# Altium footprint library MAR_modems_board_A0_wf_8.PcbLib: 33 footprints (part 2 of 3)
Each footprint in its own frame and in the unit in brackets; x right, y up, seen from the top. Pads: shape width x height; smd on the part's side, far side on the other; paste and mask are expansions set on the pad; w line width, h text height; cw(c..) or ccw(c..) is an arc to the next point about the centre after c.
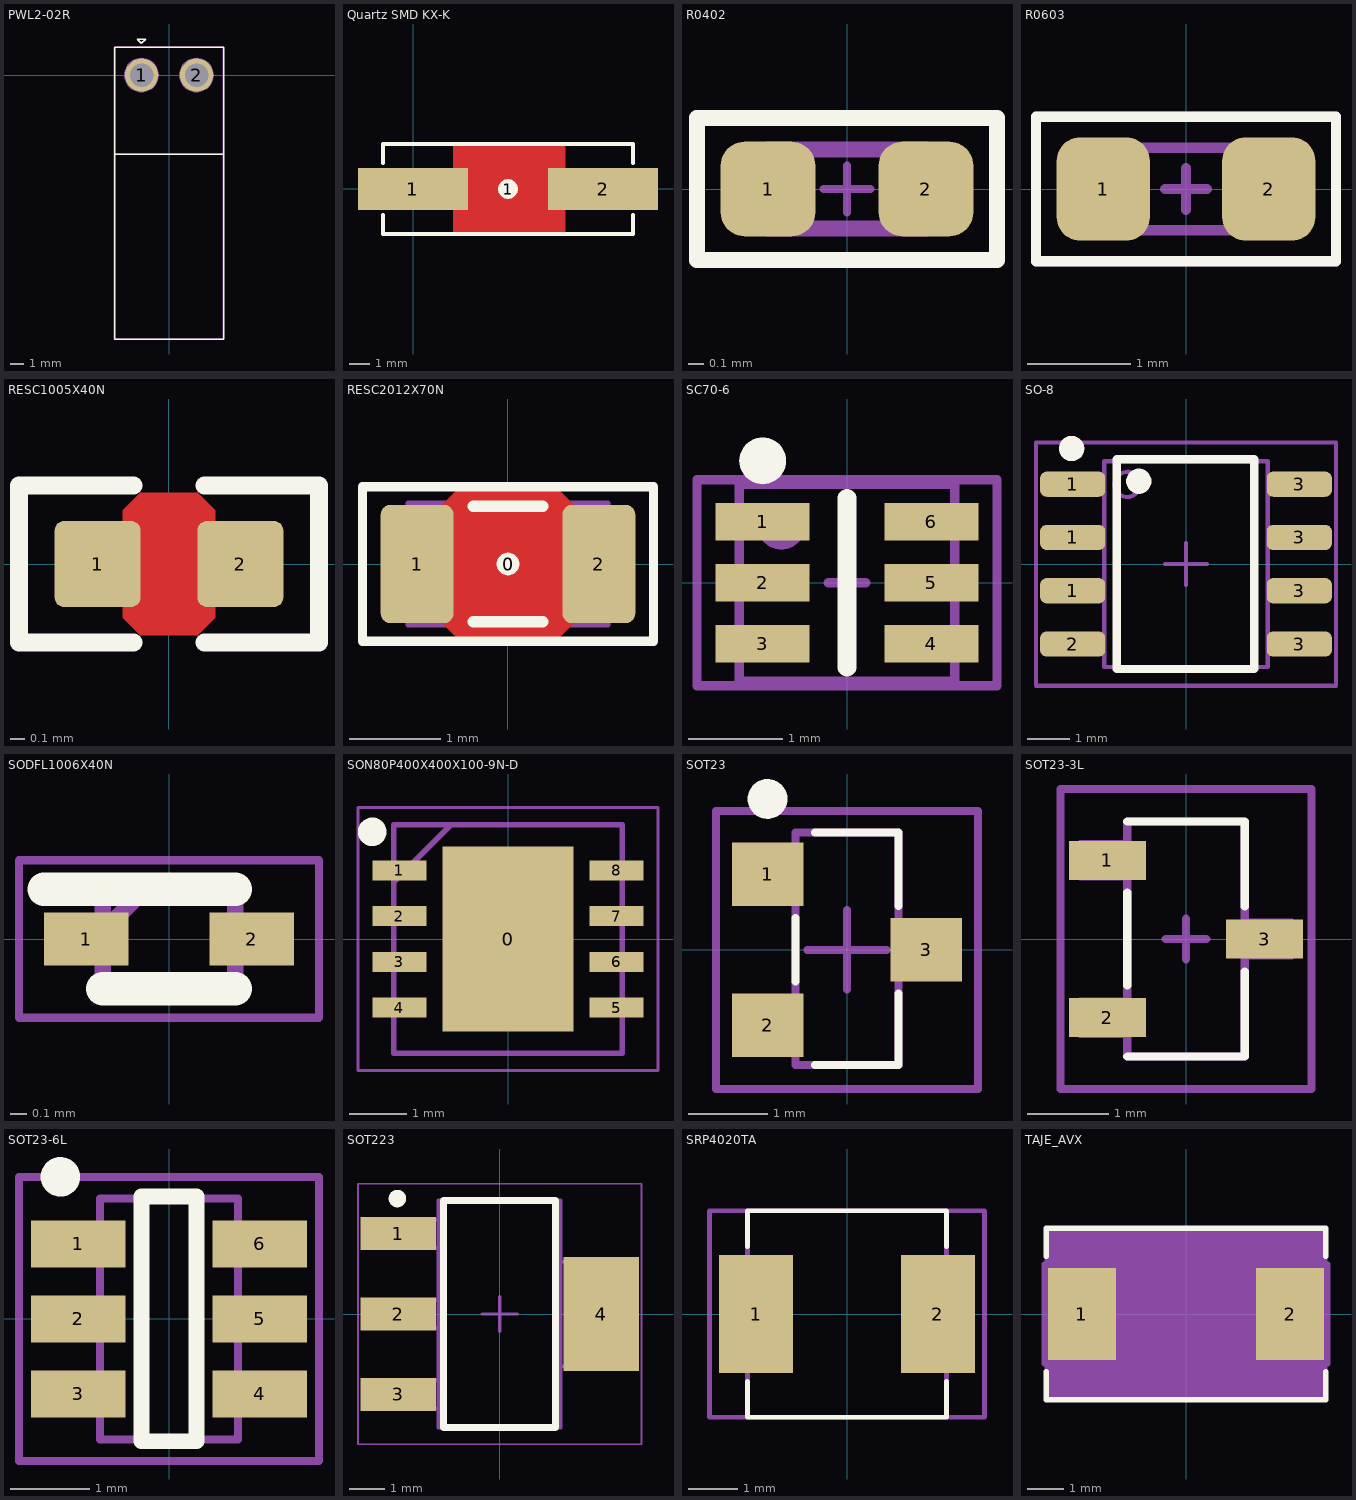
[diagram p1: the footprints below, top view; thin cyan lines are the x and y axes]

## PWL2-02R [mm] "Connector Header, 2-pin, Pitch 3.96 mm, Side Mount with stabilizer"
height 9.4
pads (2):
  round 2.4 hole 1.7 mask+0.05: 1(-1.98,0) 2(1.98,0)
Top Overlay:
  lines w0.1: -3.9,-5.7 3.93,-5.7 ; -3.93,-19 3.93,-19 3.93,2 -3.93,2 -3.93,-19 ; -2.3,2.6 -2,2.3 -1.7,2.6 -1.95,2.6 -2.05,2.6 -2.3,2.6 ; -2,2 -2,2
Top Assembly:
  circle w0.1: c-2,0 r1.2
  circle w0.1: c1.96,0 r1.2
  lines w0.1: -3.95,-5.7 3.91,-5.7 ; -3.95,2 3.91,2 ; -3.95,2 3.91,2 ; -3.95,2 -3.95,-19 3.91,-19 3.91,2
  text "'.Designator'" at -0.42,-2.5 h1.5
  text "1" at -2.12,-2.1 h1

## Quartz SMD KX-K [mm] "Quartz SMD KX-K"
height 4.2
pads (3):
  rect 5.5x2.08 smd: 1(0,0) 2(9.5,0)
  round 1 on Top Overlay: 1(4.75,0)
Top Layer:
  pour cut-out: 2,2.25 2,-2.25 7.5,-2.25 7.6,-2.15 7.6,2.25
Top Overlay:
  lines w0.2: -1.5,-1.3 -1.5,-2.25 11,-2.25 11,-1.3 ; -1.5,1.3 -1.5,2.25 11,2.25 11,1.3

## R0402 [mm] "Chip resistor 0402"
height 0.4
pads (2):
  rrect50% 0.6x0.6 smd paste-0.025 mask+0.05: 1(-0.5,0) 2(0.5,0)
Top Overlay:
  lines w0.1: -0.95,-0.45 -0.95,0.45 0.95,0.45 0.95,-0.45 -0.95,-0.45
Top Assembly:
  lines w0.1: -0.5,-0.25 0.5,-0.25 0.5,0.25 -0.5,0.25 -0.5,-0.25
  text "'.Designator'" at 0.8,-0.25 h1
Mechanical 15:
  lines w0.05: -0.15,0 0.15,0 ; 0,-0.15 0,0.15
  lines w0.1: -0.95,-0.45 0.95,-0.45 0.95,0.45 -0.95,0.45 -0.95,-0.45
3D body "R0402.step": height 0.4, standoff 0, extent -0.5,-0.25 0.5,0.25

## R0603 [mm] "Chip resistor 0603"
height 0.55
pads (2):
  rrect50% 0.9x1 smd paste-0.025 mask+0.05: 1(-0.8,0) 2(0.8,0)
Top Overlay:
  lines w0.1: -1.45,-0.7 -1.45,0.7 1.45,0.7 1.45,-0.7 -1.45,-0.7
Top Assembly:
  lines w0.1: -0.8,-0.4 0.8,-0.4 0.8,0.4 -0.8,0.4 -0.8,-0.4
  text "'.Designator'" at 1.3,-0.2 h1
Mechanical 15:
  lines w0.1: -0.2,0 0.2,0 ; 0,-0.2 0,0.2 ; -1.45,-0.7 -1.45,0.7 1.45,0.7 1.45,-0.7 -1.45,-0.7
3D body "R0603.step": height 0.55, standoff 0, extent -0.8,-0.4 0.8,0.4

## RESC1005X40N [mm] "Chip Resistor, Body 1.0x0.5mm, EIA 0402, IPC Medium Density"
height 0.4
pads (2):
  rrect20% 0.6x0.6 smd: 1(-0.5,0) 2(0.5,0)
Top Layer:
  pour cut-out: -0.325,0.375 -0.2,0.5 0.2,0.5 0.325,0.375 0.325,-0.375 0.2,-0.5 -0.2,-0.5 -0.325,-0.375
Top Overlay:
  lines w0.127: -0.25,-0.55 -1.05,-0.55 -1.05,0.55 -0.25,0.55 ; 0.25,-0.55 1.05,-0.55 1.05,0.55 0.25,0.55
Mechanical 13:
  lines w0.05: 0.225,-0.274 -0.225,-0.274 0.225,-0.274 ; -0.525,-0.275 -0.225,-0.275 -0.225,0.275 -0.525,0.275 -0.525,-0.275 ; -0.225,0.274 0.225,0.274 -0.225,0.274 ; 0.225,-0.275 0.225,0.275 0.525,0.275 0.525,-0.275 0.225,-0.275
Mechanical 15:
  lines w0.1: -0.275,0 0.275,0 ; 0,-0.275 0,0.275
3D body "RES 0402 (1005 metric).STEP": height 0.4, standoff 0, extent -0.525,-0.275 0.525,0.275

## RESC2012X70N [mm] "Chip Resistor, Body 2.0x1.2mm, EIA 0805, IPC Medium Density"
height 0.7
pads (3):
  round 0.254 on Top Overlay: 0(0,0)
  rrect25% 0.8x1.3 smd: 1(-1,0) 2(1,0)
Top Layer:
  pour cut-out: -0.725,0.65 -0.525,0.85 0.525,0.85 0.725,0.65 0.725,-0.65 0.525,-0.85 -0.525,-0.85 -0.725,-0.65
Top Overlay:
  lines w0.1: -1.6,-0.85 -1.6,0.85 1.6,0.85 1.6,-0.85 -1.6,-0.85
  lines w0.127: -0.381,-0.635 0.381,-0.635 ; -0.381,0.635 0.381,0.635
Mechanical 13:
  lines w0.05: 0.6,-0.674 -0.6,-0.674 ; -0.6,-0.674 0.6,-0.674 ; -0.6,-0.675 -1.1,-0.675 -1.1,0.675 -0.6,0.675 -0.6,-0.675 ; 0.6,-0.675 1.1,-0.675 1.1,0.675 0.6,0.675 0.6,-0.675 ; -0.6,0.673 0.6,0.674 -0.6,0.673
Mechanical 15:
  lines w0.1: -0.275,0 0.275,0 ; 0,-0.275 0,0.275
3D body "RES 0805 (2012 metric).STEP": height 0.69, standoff -0.01, extent -1.1,-0.675 1.1,0.675

## SC70-6 [mm] "SOT23, 5-Leads, Body 2,90x2,80mm, Pitch 0,95mm, IPC Medium Density"
height 1.45
pads (8):
  rect 1x0.4 smd: 1(-0.9,0.65) 2(-0.9,0) 3(-0.9,-0.65) 4(0.9,-0.65) 5(0.9,0) 6(0.9,0.65)
  round 0.5 on Top Overlay: ""(-0.9,1.3)
  round 0.5 on Mech1: ""(-0.7,0.6)
Top Overlay:
  lines w0.2: 0,-0.9 0,0.9
Mechanical 1:
  lines w0.1: -1.15,-1.05 -1.15,1.05 1.15,1.05 1.15,-1.05 -1.15,-1.05
Mechanical 2:
  lines w0.1: -0.2,0 0.2,0 ; 0,-0.2 0,0.2 ; -1.6,-1.1 1.6,-1.1 1.6,1.1 -1.6,1.1 -1.6,-1.1
  text "'.Designator'" at 0,1.3 h1.5

## SO-8 [mm] "SOIC, 8-Leads, Body 4,90x3,90mm, Pitch 1,27mm, IPC Medium Density"
height 1.75
pads (8):
  rrect50% 1.55x0.6 smd mask+0.05: 1(-2.7,-0.635) 1(-2.7,0.635) 1(-2.7,1.905) 2(-2.7,-1.905) 3(2.7,-1.905) 3(2.7,-0.635) 3(2.7,0.635) 3(2.7,1.905)
Top Overlay:
  circle w0.3: c-2.725,2.755 r0.15
  circle w0.3: c-1.125,1.975 r0.15
  lines w0.2: -1.65,-2.5 -1.65,2.5 1.625,2.5 1.625,-2.5 -1.65,-2.5
Top Assembly:
  circle w0.1: c-1.4,1.9 r0.3
  lines w0.1: -1.95,-2.45 -1.95,2.45 1.95,2.45 1.95,-2.45 -1.95,-2.45
  text "'.Designator'" at -0.475,2.3 h1.5
Mechanical 15:
  lines w0.1: -0.5,0 0.5,0 ; 0,-0.5 0,0.5 ; -3.575,-2.9 -3.575,2.9 3.575,2.9 3.575,-2.9 -3.575,-2.9
3D body "SOIC-8.STEP": height 1.75, standoff 0, extent -3,-2.45 3,2.45

## SODFL1006X40N [mm]
height 5
pads (2):
  rect 0.51x0.32 smd: 1(-0.5,0) 2(0.5,0)
Top Overlay:
  lines w0.2: -0.755,0.3 0.4,0.3 ; -0.4,-0.3 0.4,-0.3
Mechanical 13:
  lines w0.1: -0.4,0.045 -0.145,0.3 ; -0.4,-0.3 -0.4,0.3 0.4,0.3 0.4,-0.3 -0.4,-0.3
Mechanical 15:
  lines w0.05: -0.905,-0.475 -0.905,0.475 0.905,0.475 0.905,-0.475 -0.905,-0.475
3D body "ESD9101P2T5G.stp": height 0.4, standoff 0, extent -0.5,-0.3 0.5,0.3

## SON80P400X400X100-9N-D [mm]
height 0.85
pads (9):
  rect 2.3x3.23 smd: 0(0,0)
  rect 0.95x0.35 smd: 1(-1.9,1.2) 2(-1.9,0.4) 3(-1.9,-0.4) 4(-1.9,-1.2) 5(1.9,-1.2) 6(1.9,-0.4) 7(1.9,0.4) 8(1.9,1.2)
Top Overlay:
  circle w0.25: c-2.375,1.875 r0.125
Top Assembly:
  lines w0.1: -2,1 -1,2 ; -2,-2 2,-2 2,2 -2,2 -2,-2
  text "'.Designator'" at -1.2,-0.45 h2
Mechanical 15:
  lines w0.05: -2.625,-2.3 2.625,-2.3 2.625,2.3 -2.625,2.3 -2.625,-2.3
3D body "ST1S40IPUR.stp": height 1, standoff 0, extent -2.05,-2 2.05,2

## SOT23 [mm] "SOT23 package 1.3 x 2.9 mm"
height 1.1
pads (3):
  rect 0.9x0.8 smd mask+0.05: 1(-1,0.95) 2(-1,-0.95) 3(1,0)
Top Overlay:
  circle w0.25: c-1,1.9 r0.125
  lines w0.1: -0.65,-0.4 -0.65,0.4 ; -0.4,-1.45 0.65,-1.45 0.65,-0.55 ; -0.4,1.475 0.65,1.475 0.65,0.55
Top Assembly:
  lines w0.1: -0.65,-1.15 -1.3,-1.15 -1.3,-0.75 -0.65,-0.75 ; -0.65,0.75 -1.3,0.75 -1.3,1.15 -0.65,1.15 ; 0.65,-0.2 1.3,-0.2 1.3,0.2 0.65,0.2 ; 0.65,1.45 0.65,-1.45 -0.65,-1.45 -0.65,1.475 0.65,1.475
  text "'.Designator'" at 0.475,-1.325 h1.5
Mechanical 15:
  lines w0.1: -0.5,0 0.5,0 ; 0,-0.5 0,0.5 ; -1.65,-1.75 -1.65,1.75 1.65,1.75 1.65,-1.75 -1.65,-1.75
3D body "SOT-23.STEP": height 1.1, standoff 0, extent -1.25,-1.5 1.25,1.5

## SOT23-3L [mm] "3-lead 1.45x2.9 package"
height 1.4
pads (3):
  rect 0.95x0.48 smd mask+0.05: 1(-0.97,0.97) 2(-0.97,-0.97) 3(0.97,0)
Top Overlay:
  lines w0.1: -0.725,-1.45 0.725,-1.45 0.725,-0.4 ; -0.725,-0.575 -0.725,0.575 ; -0.725,1.45 0.725,1.45 0.725,0.4
Mechanical 13:
  lines w0.1: -0.725,-1.17 -1.3,-1.17 -1.3,-0.77 -0.725,-0.77 ; -0.725,0.77 -1.3,0.77 -1.3,1.17 -0.725,1.17 ; -0.725,1.05 -0.725,1.45 ; 0.725,-0.2 1.3,-0.2 1.3,0.2 0.725,0.2 ; -0.725,1.45 -0.725,-1.45 0.725,-1.45 0.725,1.45 -0.725,1.45
  text "'.Designator'" at -0.475,0.725 h1.5
Mechanical 15:
  lines w0.1: -0.25,0 0.25,0 ; 0,-0.25 0,0.25 ; -1.55,-1.85 1.55,-1.85 1.55,1.85 -1.55,1.85 -1.55,-1.85
3D body "SOT-23.STEP": height 1.1, standoff 0, extent -1.25,-1.5 1.25,1.5

## SOT23-6L [mm] "SOT23, 6-Leads, Body 2,90x1,60mm, Pitch 0,95mm, IPC Medium Density"
height 1.1
pads (6):
  rect 1.2x0.6 smd: 1(-1.15,0.95) 2(-1.15,0) 3(-1.15,-0.95) 4(1.15,-0.95) 5(1.15,0) 6(1.15,0.95)
Top Overlay:
  circle w0.25: c-1.375,1.8 r0.125
  lines w0.2: -0.35,-1.55 0.35,-1.55 0.35,1.55 -0.35,1.55 -0.35,-1.55
Mechanical 13:
  lines w0.1: -0.875,-1.525 -0.875,1.525 0.875,1.525 0.875,-1.525 -0.875,-1.525
Mechanical 15:
  lines w0.1: -1.9,-1.8 -1.9,1.8 1.9,1.8 1.9,-1.8 -1.9,-1.8
3D body "SOT23-6_p0.95_s2.9x2.8mm.step": height 1.1, standoff 0, extent -1.525,-1.525 1.525,1.525

## SOT223 [mm] "SOT223, 4-Leads, Body 6,50x3,50mm (avg), Pitch 2,30mm, IPC Medium Density"
height 1.8
pads (4):
  rect 2.15x0.95 smd mask+0.05: 1(-2.9,2.3) 2(-2.9,0) 3(-2.9,-2.3)
  rect 2.15x3.25 smd mask+0.05: 4(2.9,0)
Top Overlay:
  circle w0.25: c-2.925,3.3 r0.125
  lines w0.2: -1.6,-3.25 1.6,-3.25 1.6,3.25 -1.6,3.25 -1.6,-3.25
Top Assembly:
  lines w0.1: -1.75,-2.7 -3.5,-2.7 -3.5,-1.9 -1.75,-1.9 ; -1.75,-0.4 -3.5,-0.4 -3.5,0.4 -1.75,0.4 ; -1.75,1.9 -3.5,1.9 -3.5,2.7 -1.75,2.7 ; 1.75,-1.5 3.5,-1.5 3.5,1.5 1.75,1.5 ; -1.75,-3.25 1.75,-3.25 1.75,3.25 -1.75,3.25 -1.75,-3.25
  text "'.Designator'" at -0.475,1.125 h1.5
Mechanical 15:
  lines w0.05: -4.05,-3.725 4.05,-3.725 4.05,3.725 -4.05,3.725 -4.05,-3.725
  lines w0.1: -0.5,0 0.5,0 ; 0,-0.5 0,0.5
3D body "SOT-223.STEP": height 1.65, standoff -0.03, extent -3.48,-3.25 3.48,3.25

## SRP4020TA [mm] "SRP4020TA Power Inductor Series"
height 2
pads (2):
  rect 1.5x2.4 smd paste-0.05 mask+0.1: 1(-1.85,0) 2(1.85,0)
Top Overlay:
  lines w0.1: -2.025,-1.375 -2.025,-2.1 2.025,-2.1 2.025,-1.375 ; -2.025,1.375 -2.025,2.1 2.025,2.1 2.025,1.375
Top Assembly:
  lines w0.1: -2.025,-1 -2.225,-1 -2.225,1 -2.025,1 ; 2.025,-1 2.25,-1 2.25,1 ; 2.025,1 2.225,1 ; -2.025,-2.1 2.025,-2.1 2.025,2.1 -2.025,2.1 -2.025,-2.1
  text "'.Designator'" at -0.75,-0.5 h1.5
Mechanical 15:
  lines w0.1: -2.8,-2.1 2.8,-2.1 2.8,2.1 -2.8,2.1 -2.8,-2.1
3D body "SRP4020TA series.stp": height 1.91, standoff 0, extent -2.2,-2.1 2.2,2.1

## TAJE_AVX [mil]
height 15.75
pads (2):
  rect 74x100 smd paste+0 mask+0: 1(-113.5,0) 2(113.5,0)
Top Overlay:
  lines w6: -152.5,-62.95 -152.5,-93.5 152.5,-93.5 152.5,-62.95 ; -152.5,62.95 -152.5,93.5 152.5,93.5 152.5,62.95
Mechanical 13:
  lines w1: -147.5,-88.5 -147.5,88.5 147.5,88.5 147.5,-88.5 -147.5,-88.5
Mechanical 15:
  region: -151.5,-54 -154.5,-54 -154.5,54 -151.5,54 -151.5,92.5 151.5,92.5 151.5,54 154.5,54 154.5,-54 151.5,-54 151.5,-92.5 -151.5,-92.5
  lines w6: -154.5,-54 -151.5,-54 -151.5,-92.5 151.5,-92.5 151.5,-54 154.5,-54 154.5,54 151.5,54 151.5,92.5 -151.5,92.5 -151.5,54 -154.5,54 -154.5,-54
3D body "TAJE_AVX.step": height 172.01, standoff 0, extent -147.48,-88.5 147.48,88.5